# Altium schematic symbol library RobotDriverSCHLib.SchLib: 28 symbols
Pins are listed as number, name and electrical type; pins without a type are passive.

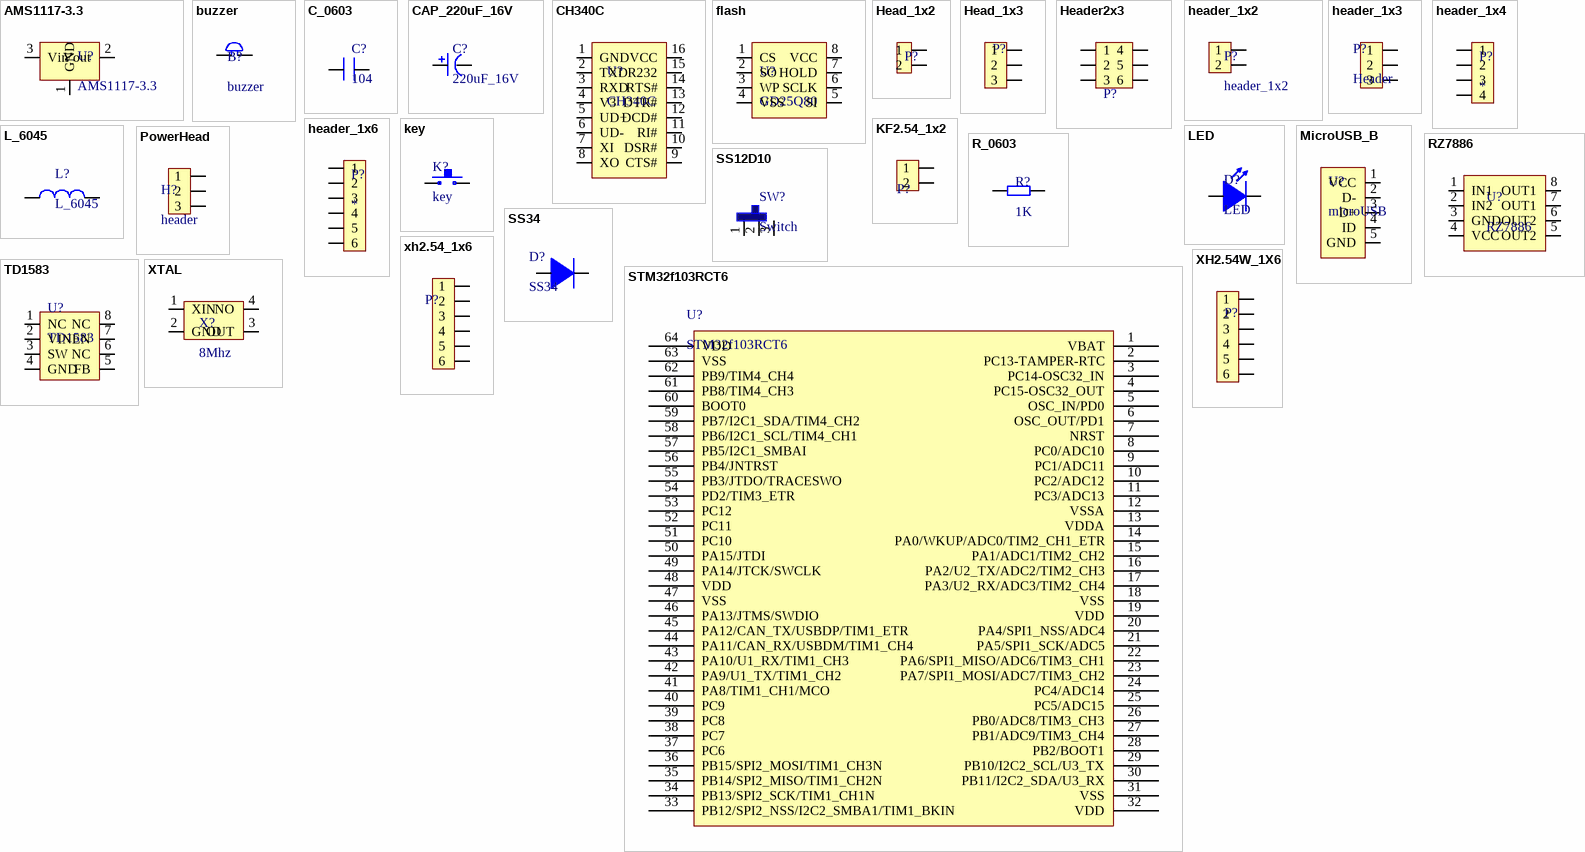
[diagram p0: symbols AMS1117-3.3 to XTAL]

## AMS1117-3.3
designator U?
footprint SOT-223
pins: 1 GND, 2 Vout, 3 Vin

## buzzer
designator B?
footprint BEEP 5x9x5.5 (5*9*5.5mm(脚距,直径,高度))
pins: 1, 2

## C_0603
designator C?, comment 104
footprint C 0603 (无极性贴片电容)
pins: 1, 2

## CAP_220uF_16V
designator C?, comment 220uF_16V
footprint CM D(6.3*7.7) (贴片电解电容，直径6.3mm，高7.7mm)
pins: 1, 2

## CH340C
designator U?
footprint SOP16 (（蒜米工坊）)
pins: 1 GND, 2 TXD, 3 RXD, 4 V3, 5 UD+, 6 UD-, 7 XI, 8 XO, 9 CTS#, 10 DSR#, 11 RI#, 12 DCD#, 13 DTR#, 14 RTS#, 15 R232, 16 VCC

## flash
designator U?, comment GD25Q80
footprint SOP8 (5*6*1.8mm（长宽高）)
pins: 1 CS, 2 SO, 3 WP, 4 VSS, 5 SI, 6 SCLK, 7 HOLD, 8 VCC

## Head_1x2
designator P?  (value not drawn)
footprint HDR2.54-LI-2P (排针，2脚)
pins: 1, 2

## Head_1x3
designator P?  (value not drawn)
footprint HDR2.54-LI-3P (排针，3脚)
pins: 1, 2, 3

## Header2x3
designator P?  (value not drawn)
footprint HDR2.54-LI-2x3P (双排排针，3x2脚)
pins: 1, 2, 3, 4, 5, 6

## header_1x2
designator P?
footprint HDR2.54-LI-2P (排针，2脚)
pins: 1, 2

## header_1x3
designator P?, comment Header
footprint HDR2.54-LI-3P (排针，3脚)
footprint XH2.54-WS-3P (长：12.5mm，宽：8mm，高：6.1mm)
footprint XH2.54-WI-3P (接插件，3P)
pins: 1, 2, 3

## header_1x4
designator P?
footprint HDR2.54-LI-4P (排针，4脚)
footprint XH2.54-WS-4P (长：15mm，宽：8mm，高：6.1mm)
footprint XH2.54-WI-4P (接插件，4P)
pins: 1, 2, 3, 4

## header_1x6
designator P?
footprint HDR2.54-M-LI-6P (排母，6脚)
pins: 1, 2, 3, 4, 5, 6

## key
designator K?
footprint TSW SMD-3*6*4.3 (3*6*4.3mm)
pins: 1, 2

## KF2.54_1x2
designator P?  (value not drawn)
footprint KF2EDGK-2.54-WI-2P (长：6.93mm，宽：10.1mm，高：8.1mm)
pins: 1, 2

## L_6045
designator L?
footprint NR6045 (6.0mm*6.0mm*4.5mm(长*宽*高）)
pins: 1, 2

## LED
designator D?
footprint LED 0603R (红色0603LED)
pins: 1, 2

## MicroUSB_B
designator U?, comment microUSB
footprint USB-MICRO_B (micro型USB ，5.9*8.2*2.5mm)
pins: 1 VCC, 2 D-, 3 D+, 4 ID, 5 GND

## PowerHead
designator H?, comment header
pins: 1, 2, 3

## R_0603
designator R?, comment 1K
footprint 0603R
pins: 1, 2

## RZ7886
designator U?
footprint DIP8 (8脚300mil直插集成电路（蒜米工坊）)
pins: 1 IN1, 2 IN2, 3 GND, 4 VCC, 5 OUT2, 6 OUT2, 7 OUT1, 8 OUT1

## SS12D10
designator SW?, comment Switch
footprint SS12D10
pins: 1, 2, 3

## SS34
designator D?
footprint SMA (4.5x2.6*2.2mm（长宽高，不包括引脚）)
pins: 1, 2

## STM32f103RCT6
designator U?
footprint LQFP_64 (LQFP, 64-Leads, Body 10.00x10.00mm, Pitch 0.50mm)
pins: 1 VBAT, 2 PC13-TAMPER-RTC, 3 PC14-OSC32_IN, 4 PC15-OSC32_OUT, 5 OSC_IN/PD0, 6 OSC_OUT/PD1, 7 NRST, 8 PC0/ADC10, 9 PC1/ADC11, 10 PC2/ADC12, 11 PC3/ADC13, 12 VSSA, 13 VDDA, 14 PA0/WKUP/ADC0/TIM2_CH1_ETR, 15 PA1/ADC1/TIM2_CH2, 16 PA2/U2_TX/ADC2/TIM2_CH3, 17 PA3/U2_RX/ADC3/TIM2_CH4, 18 VSS, 19 VDD, 20 PA4/SPI1_NSS/ADC4, 21 PA5/SPI1_SCK/ADC5, 22 PA6/SPI1_MISO/ADC6/TIM3_CH1, 23 PA7/SPI1_MOSI/ADC7/TIM3_CH2, 24 PC4/ADC14, 25 PC5/ADC15, 26 PB0/ADC8/TIM3_CH3, 27 PB1/ADC9/TIM3_CH4, 28 PB2/BOOT1, 29 PB10/I2C2_SCL/U3_TX, 30 PB11/I2C2_SDA/U3_RX, 31 VSS, 32 VDD, 33 PB12/SPI2_NSS/I2C2_SMBA1/TIM1_BKIN, 34 PB13/SPI2_SCK/TIM1_CH1N, 35 PB14/SPI2_MISO/TIM1_CH2N, 36 PB15/SPI2_MOSI/TIM1_CH3N, 37 PC6, 38 PC7, 39 PC8, 40 PC9, 41 PA8/TIM1_CH1/MCO, 42 PA9/U1_TX/TIM1_CH2, 43 PA10/U1_RX/TIM1_CH3, 44 PA11/CAN_RX/USBDM/TIM1_CH4, 45 PA12/CAN_TX/USBDP/TIM1_ETR, 46 PA13/JTMS/SWDIO, 47 VSS, 48 VDD, 49 PA14/JTCK/SWCLK, 50 PA15/JTDI, 51 PC10, 52 PC11, 53 PC12, 54 PD2/TIM3_ETR, 55 PB3/JTDO/TRACESWO, 56 PB4/JNTRST, 57 PB5/I2C1_SMBAI, 58 PB6/I2C1_SCL/TIM4_CH1, 59 PB7/I2C1_SDA/TIM4_CH2, 60 BOOT0, 61 PB8/TIM4_CH3, 62 PB9/TIM4_CH4, 63 VSS, 64 VDD

## TD1583
designator U?
footprint SOP8 (5*6*1.8mm（长宽高）)
pins: 1 NC, 2 VIN, 3 SW, 4 GND, 5 FB, 6 NC, 7 EN, 8 NC

## xh2.54_1x6
designator P?, comment PS2无线手柄  (value not drawn)
footprint XH2.54-LI-6P (接插件，6P)
pins: 1, 2, 3, 4, 5, 6

## XH2.54W_1X6
designator P?  (value not drawn)
footprint XH2.54-WI-6P (接插件，6P)
pins: 1, 2, 3, 4, 5, 6

## XTAL
designator X?, comment 8Mhz
footprint OSC 3225-4P (3.2*2.5*0.7mm(长宽高))
pins: 1 XIN, 2 GND, 3 OUT, 4 NO